# Altium schematic symbol library RC_SMD_3D.SchLib: 5 symbols
Pins are listed as number, name and electrical type; pins without a type are passive.

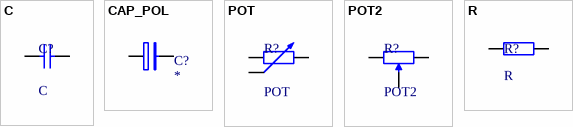
[diagram p0: symbols C to R]

## C
designator C?
Capacitor; Modified_by: BEP1; Modified: 10.2008; Type: *; Voltage: *
footprint CAPC1608[0603]X80 (Chip Capacitor; 1.6x0.8mm)
footprint CAPC2012[0805]X70 (Chip Capacitor; 2x1.25mm)
footprint CAPC1005[0402]X50 (Chip Capacitor; 1.0x0.5mm)
footprint CAPC3225[1210]X120 (Chip Capacitor; 3.2x2.5 mm)
footprint CAPC4532[1812]X140 (Chip Capacitor; 4.5x3.2mm)
footprint CAPC4564[1825]X125 (Chip Capacitor; 4.5x6.4mm)
footprint CAPC3216[1206]X130 (Chip Capacitor; 3.2x1.6mm)
footprint CAPC2012[0805]X120 (Chip Capacitor; 2x1.25mm)
footprint CAPC3216[1206]X90 (Chip Capacitor; 3.2x1.6mm)
footprint CAPC3225[1210]X190 (Chip Capacitor; 3.2x2.5mm)
footprint CAPC4532[1812]X210 (Chip Capacitor; 4.5x3.2mm)
footprint CAPC4564[1825]X160 (Chip Capacitor; 4.5x6.4mm)
footprint CAPC5750[2220]X200 (Chip Capacitor; 5.7x5.0mm)
pins: 1, 2

## CAP_POL
designator C?
Polarized Capacitor; Modified_by: BEP1; Modified: 10.2008; Voltage: *
footprint FK_B (Panasonic Caps Serie FK, Case B, Dia 4 x 5,8mm)
footprint FK_G (Panasonic FK_V, Case G, Dia 10x10,2mm)
footprint FK_C (Panasonic Caps Serie FK Case C, Dia 5 x 5,8mm)
footprint FK_D (Panasonic FK_V, Case C, Dia 6,3x5,8mm)
footprint CAPMP3216X180N_(A) (Capacitor polarized; 3.2x1.6mm)
footprint FK_E (Panasonic FK_V, Case E, Dia 8x6,2mm)
footprint CAPMP3528X200N_(B) (Capacitor polarized; 3.2x2.8mm)
footprint CAPMP6032X280N_(C) (Capacitor polarized; 6.0x3.2mm)
footprint CAPMP7343X310N_(D) (Capacitor polarized; 7.3x4.3mm)
pins: 1 +, 2 -

## POT
designator R?
Variable Resistor; Published: 8-Jun-2000; LatestRevisionDate: 10-July-2013; Publisher: Bep1
footprint BOURNS_3312 (Potentiometer 3pin)
footprint MURATA_PVZ2A (Potentiometer 3pin)
footprint BOURNS3296W (Trimmer 3296W)
footprint POT_23B (Potentiometer 4,5x4,5mm)
pins: 1 CCW, 2 Wiper, 3 CW

## POT2
designator R?
Variable Resistor; LatestRevisionDate: 10-July-2013; Publisher: Bep1
footprint BOURNS_3312 (Potentiometer 3pin)
footprint BOURNS3296W (Trimmer 3296W)
footprint MURATA_PVZ2A (Potentiometer 3pin)
footprint POT_23B (Potentiometer 4,5x4,5mm)
pins: 1 CCW, 2 Wiper, 3 CW

## R
designator R?
Resistor; Modified_by: BEP1; Modified: 10.2008
footprint RESC1005[0402]X35 (Chip Resistor; 1x0.5mm)
footprint RESC1608[0603]X50 (Chip Resistor; 1.6x0.8mm)
footprint RESC2012[0805]X60 (Chip Resistor; 2.1x1.25mm)
footprint RESC3216[1206]X60 (Chip Resistor; 3.2x1.6mm)
footprint RESC3225[1210]X60 (Chip Resistor; 3.2x2.5 mm)
footprint RESC5025[2010]X70 (Chip Resistor; 5.0x2.5mm)
footprint RESC6332[2512]X70 (Chip Resistor; 6.3x3.2mm)
pins: 1, 2